# EAGLE library part TPS61097_SOT33DBV (library mbonnin)
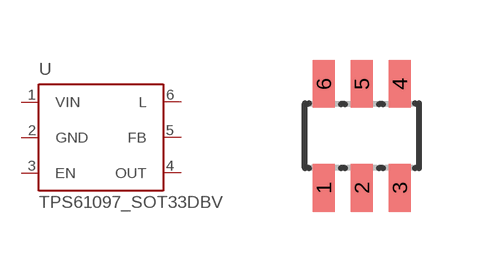
[diagram p2: symbol with the pads of SOT33DBV; footprint SOT33DBV]

Designator prefix -

## TPS61097_SOT33DBV  [SOT33DBV]
1  VIN  in
2  GND  in
3  EN  in
4  OUT  sup
5  FB  in
6  L  in

## Footprint SOT33DBV (pad centres in mm)
smd 0.55 x 1.2: 1 -0.95,-1.3; 2 0,-1.3; 3 0.95,-1.3; 4 0.95,1.3; 5 0,1.3; 6 -0.95,1.3